# EAGLE library part DRV8839DSSR (library drv8839)
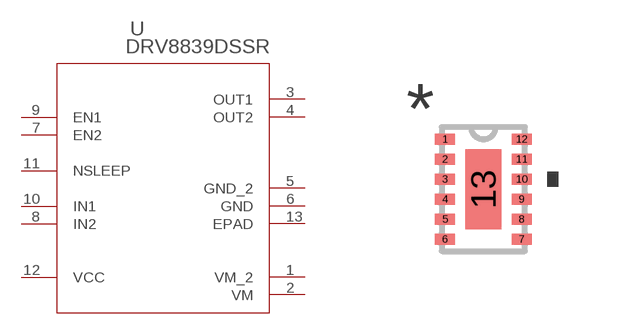
[diagram p0: symbol with the pads of DSS12_P9X2; footprint DSS12_P9X2]

Designator prefix U

## DRV8839DSSR (MANUFACTURER_PART_NUMBER: DRV8839DSSR; VENDOR: Texas Instruments)  [DSS12_P9X2]
1  VM_2  pwr
2  VM  pwr
3  OUT1  out
4  OUT2  out
5  GND_2  pwr
6  GND  pwr
7  EN2  in
8  IN2  in
9  EN1  in
10  IN1  in
11  NSLEEP  in
12  VCC  pwr
13  EPAD  pas

## Footprint DSS12_P9X2 (pad centres in mm)
smd 0.5 x 0.28: 1 -0.959,1.25; 2 -0.959,0.75; 3 -0.959,0.25; 4 -0.959,-0.25; 5 -0.959,-0.75; 6 -0.959,-1.25; 7 0.959,-1.25; 8 0.959,-0.75; 9 0.959,-0.25; 10 0.959,0.25; 11 0.959,0.75; 12 0.959,1.25
smd 0.9 x 2: 13 0,0